# Altium integrated library Fuse.IntLib: 1 symbol
Pins are listed as number, name and electrical type; pins without a type are passive.

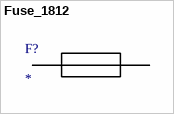
[diagram p0: symbol Fuse_1812]

## Fuse_1812
designator F?
footprint 1812
pins: 1, 2